# Altium schematic symbol library 532614008.SchLib: 1 symbol
Pins are listed as number, name and electrical type; pins without a type are passive.

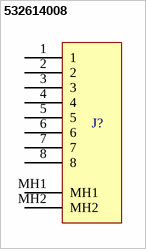
[diagram p0: symbol 532614008]

## 532614008
designator J?  (value not drawn)
Molex Picoblade $8-pin connector
pins: 1, 2, 3, 4, 5, 6, 7, 8, MH1 (power), MH2 (power)